# EAGLE library part CMOS_HEX_INVERTER (library SCIENCE_BOARD)
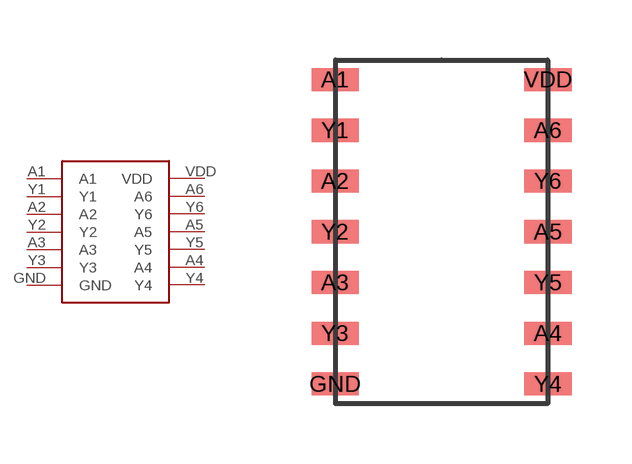
[diagram p1: symbol with the pads of CMOS_HEX_INVERTER; footprint CMOS_HEX_INVERTER]

Designator prefix -

## CMOS_HEX_INVERTER  [CMOS_HEX_INVERTER]
A1  A1
A2  A2
A3  A3
A4  A4
A5  A5
A6  A6
GND  GND
VDD  VDD
Y1  Y1
Y2  Y2
Y3  Y3
Y4  Y4
Y5  Y5
Y6  Y6

## Footprint CMOS_HEX_INVERTER (pad centres in mm)
smd 1.18 x 0.58: A1 -2.66,3.81; A2 -2.66,1.27; A3 -2.66,-1.27; A4 2.66,-2.54; A5 2.66,0; A6 2.66,2.54; GND -2.66,-3.81; VDD 2.66,3.81; Y1 -2.66,2.54; Y2 -2.66,0; Y3 -2.66,-2.54; Y4 2.66,-3.81; Y5 2.66,-1.27; Y6 2.66,1.27